# EAGLE library part MX25L8006EM1I-12G (library MX25L8006EM1I-12G)
None Check prices <https://pricing.snapeda.com/search/part/MX25L8006EM1I-12G/?ref=eda>
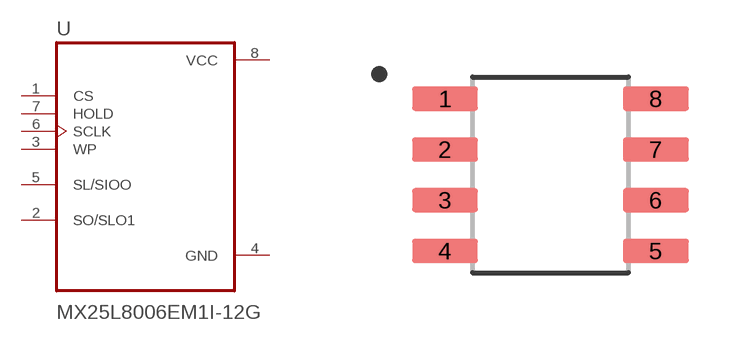
[diagram p0: symbol with the pads of SOP127P600X175-8N; footprint SOP127P600X175-8N]

Designator prefix U

## MX25L8006EM1I-12G (Availability: Warning; Description: FLASH - NOR Memory IC 8Mb (1M x 8) SPI 86MHz 8-SOP; MF: Macronix; MP: MX25L8006EM1I-12G; Package: SOP-8 Macronix; Price: None; Purchase-URL: https://pricing.snapeda.com/search/part/MX25L8006EM1I-12G/?ref=eda)  [SOP127P600X175-8N]
1  CS  in
2  SO/SLO1
3  WP  in
4  GND  pwr
5  SL/SIOO
6  SCLK  in
7  HOLD  in
8  VCC  pwr

## Footprint SOP127P600X175-8N (pad centres in mm)
smd 1.65 x 0.61: 1 -2.635,1.905; 2 -2.635,0.635; 3 -2.635,-0.635; 4 -2.635,-1.905; 5 2.635,-1.905; 6 2.635,-0.635; 7 2.635,0.635; 8 2.635,1.905